# Altium footprint library SW_TL3365AF180QG.PcbLib: 1 footprints
Each footprint in its own frame and in the unit in brackets; x right, y up, seen from the top. Pads: shape width x height; smd on the part's side, far side on the other; paste and mask are expansions set on the pad; w line width, h text height; cw(c..) or ccw(c..) is an arc to the next point about the centre after c.
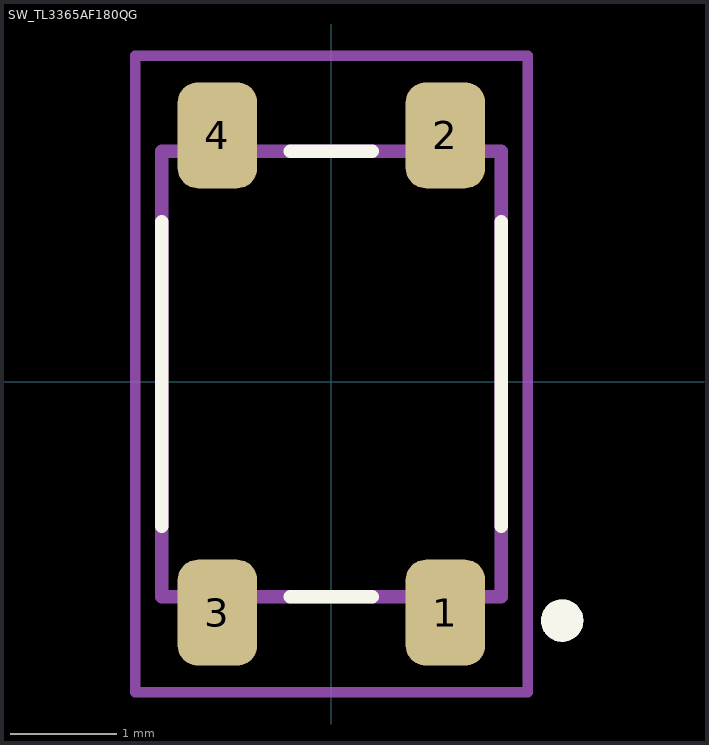
[diagram p0: the footprint, top view; thin cyan lines are the x and y axes]

## SW_TL3365AF180QG [mm]
height 2.5
pads (4):
  rrect50% 0.75x1 smd: 1(1.075,-2.175) 2(1.075,2.325) 3(-1.075,-2.175) 4(-1.075,2.325)
Top Overlay:
  circle w0.2: c2.175,-2.25 r0.1
  lines w0.127: -1.6,-1.362 -1.6,1.511 ; -0.386,-2.025 0.387,-2.025 ; -0.386,2.175 0.387,2.175 ; 1.6,-1.362 1.6,1.511
Top 3D Body:
  circle w0.2: c2.175,-2.25 r0.1
  lines w0.127: -1.6,-2.025 1.6,-2.025 1.6,2.175 -1.6,2.175 -1.6,-2.025
Courtyard Top:
  lines w0.1: -1.85,-2.925 1.85,-2.925 1.85,3.075 -1.85,3.075 -1.85,-2.925
Top Designator (Mech29):
  text ".Designator" at 0.358,-5.023 h1
3D body "step_temp.STEP": height 2.52, standoff 0.01, extent -1.575,-2.199 1.625,2.299